# Altium integrated library SignalCommunications.IntLib: 804 symbols (part 8 of 10)
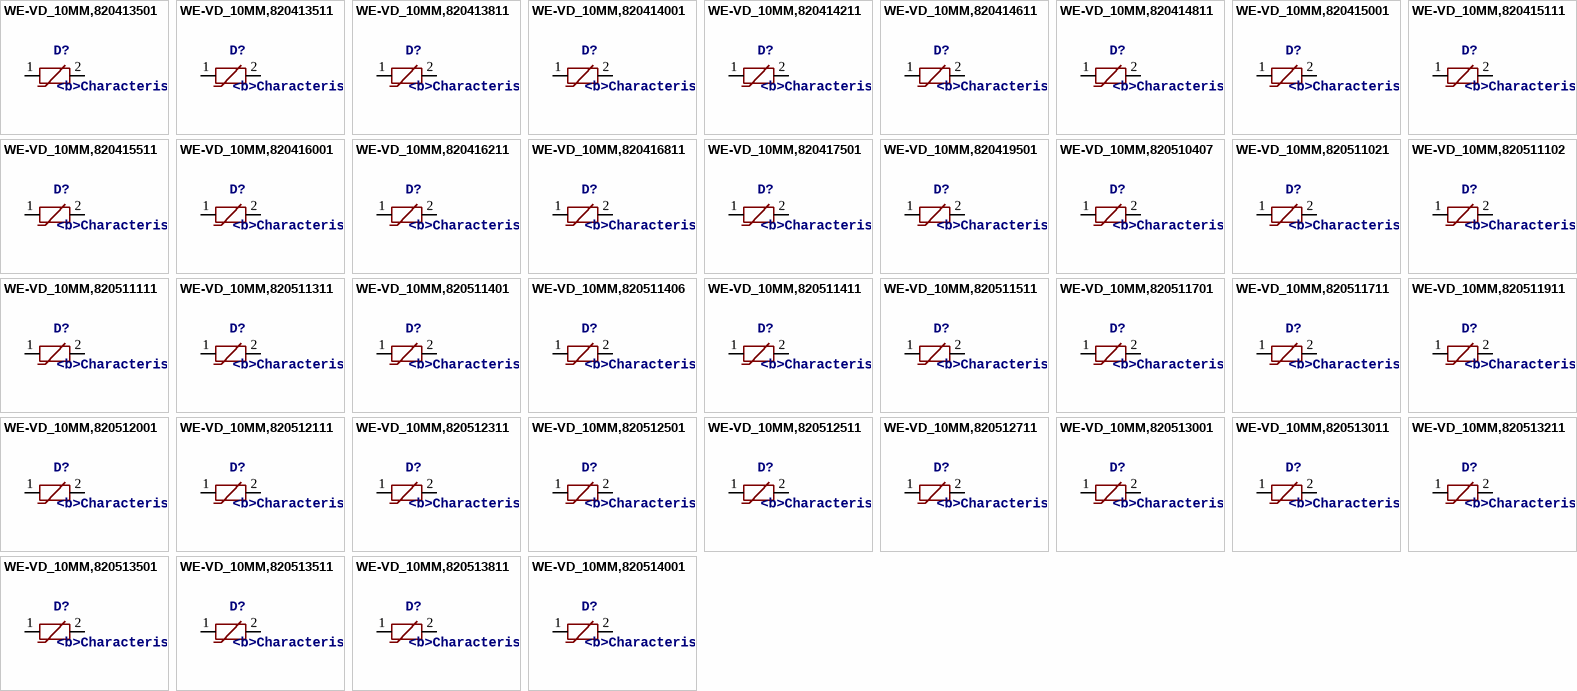
[diagram p49: symbols WE-VD_10MM,820413501 to WE-VD_10MM,820514001]

## WE-VD_10MM,820511411
designator D?, comment <b>Characteristics:</b> / <pre>•Low clamping voltage / •After a surge impulse the varistor works immediately / in normal mode so there is no slip current / •Excellent absorption at surge impulses</pre><br> / <b>Applications:</b> / <pre> / •12–48 VDC distribution / •110–400 V power supply / •Leakage of voltage peaks / •Surge protection in accordance with EN 61000-4-5 / </pre>
MANUFACTURER: Würth Elektronik eiSos GmbH; CREATED-BY: Christin Zierenner; COMPANY-URL: http://www.we-online.de; CREATED-DATE: May 2012; DATASHEET-URL: http://katalog.we-online.de/kataloge/eisos/index.php?language=en&pf=WE-VD
footprint WE-VD_10MM-DIA
pins: 1, 2

## WE-VD_10MM,820511511
designator D?, comment <b>Characteristics:</b> / <pre>•Low clamping voltage / •After a surge impulse the varistor works immediately / in normal mode so there is no slip current / •Excellent absorption at surge impulses</pre><br> / <b>Applications:</b> / <pre> / •12–48 VDC distribution / •110–400 V power supply / •Leakage of voltage peaks / •Surge protection in accordance with EN 61000-4-5 / </pre>
MANUFACTURER: Würth Elektronik eiSos GmbH; CREATED-BY: Christin Zierenner; COMPANY-URL: http://www.we-online.de; CREATED-DATE: May 2012; DATASHEET-URL: http://katalog.we-online.de/kataloge/eisos/index.php?language=en&pf=WE-VD
footprint WE-VD_10MM-DIA
pins: 1, 2

## WE-VD_10MM,820511701
designator D?, comment <b>Characteristics:</b> / <pre>•Low clamping voltage / •After a surge impulse the varistor works immediately / in normal mode so there is no slip current / •Excellent absorption at surge impulses</pre><br> / <b>Applications:</b> / <pre> / •12–48 VDC distribution / •110–400 V power supply / •Leakage of voltage peaks / •Surge protection in accordance with EN 61000-4-5 / </pre>
MANUFACTURER: Würth Elektronik eiSos GmbH; CREATED-BY: Christin Zierenner; COMPANY-URL: http://www.we-online.de; CREATED-DATE: May 2012; DATASHEET-URL: http://katalog.we-online.de/kataloge/eisos/index.php?language=en&pf=WE-VD
footprint WE-VD_10MM-DIA
pins: 1, 2

## WE-VD_10MM,820511711
designator D?, comment <b>Characteristics:</b> / <pre>•Low clamping voltage / •After a surge impulse the varistor works immediately / in normal mode so there is no slip current / •Excellent absorption at surge impulses</pre><br> / <b>Applications:</b> / <pre> / •12–48 VDC distribution / •110–400 V power supply / •Leakage of voltage peaks / •Surge protection in accordance with EN 61000-4-5 / </pre>
MANUFACTURER: Würth Elektronik eiSos GmbH; CREATED-BY: Christin Zierenner; COMPANY-URL: http://www.we-online.de; CREATED-DATE: May 2012; DATASHEET-URL: http://katalog.we-online.de/kataloge/eisos/index.php?language=en&pf=WE-VD
footprint WE-VD_10MM-DIA
pins: 1, 2

## WE-VD_10MM,820511911
designator D?, comment <b>Characteristics:</b> / <pre>•Low clamping voltage / •After a surge impulse the varistor works immediately / in normal mode so there is no slip current / •Excellent absorption at surge impulses</pre><br> / <b>Applications:</b> / <pre> / •12–48 VDC distribution / •110–400 V power supply / •Leakage of voltage peaks / •Surge protection in accordance with EN 61000-4-5 / </pre>
MANUFACTURER: Würth Elektronik eiSos GmbH; CREATED-BY: Christin Zierenner; COMPANY-URL: http://www.we-online.de; CREATED-DATE: May 2012; DATASHEET-URL: http://katalog.we-online.de/kataloge/eisos/index.php?language=en&pf=WE-VD
footprint WE-VD_10MM-DIA
pins: 1, 2

## WE-VD_10MM,820512001
designator D?, comment <b>Characteristics:</b> / <pre>•Low clamping voltage / •After a surge impulse the varistor works immediately / in normal mode so there is no slip current / •Excellent absorption at surge impulses</pre><br> / <b>Applications:</b> / <pre> / •12–48 VDC distribution / •110–400 V power supply / •Leakage of voltage peaks / •Surge protection in accordance with EN 61000-4-5 / </pre>
MANUFACTURER: Würth Elektronik eiSos GmbH; CREATED-BY: Christin Zierenner; COMPANY-URL: http://www.we-online.de; CREATED-DATE: May 2012; DATASHEET-URL: http://katalog.we-online.de/kataloge/eisos/media/pdf/820512001.pdf
footprint WE-VD_10MM-DIA
pins: 1, 2

## WE-VD_10MM,820512111
designator D?, comment <b>Characteristics:</b> / <pre>•Low clamping voltage / •After a surge impulse the varistor works immediately / in normal mode so there is no slip current / •Excellent absorption at surge impulses</pre><br> / <b>Applications:</b> / <pre> / •12–48 VDC distribution / •110–400 V power supply / •Leakage of voltage peaks / •Surge protection in accordance with EN 61000-4-5 / </pre>
MANUFACTURER: Würth Elektronik eiSos GmbH; CREATED-BY: Christin Zierenner; COMPANY-URL: http://www.we-online.de; CREATED-DATE: May 2012; DATASHEET-URL: http://katalog.we-online.de/kataloge/eisos/index.php?language=en&pf=WE-VD
footprint WE-VD_10MM-DIA
pins: 1, 2

## WE-VD_10MM,820512311
designator D?, comment <b>Characteristics:</b> / <pre>•Low clamping voltage / •After a surge impulse the varistor works immediately / in normal mode so there is no slip current / •Excellent absorption at surge impulses</pre><br> / <b>Applications:</b> / <pre> / •12–48 VDC distribution / •110–400 V power supply / •Leakage of voltage peaks / •Surge protection in accordance with EN 61000-4-5 / </pre>
MANUFACTURER: Würth Elektronik eiSos GmbH; CREATED-BY: Christin Zierenner; COMPANY-URL: http://www.we-online.de; CREATED-DATE: May 2012; DATASHEET-URL: http://katalog.we-online.de/kataloge/eisos/media/pdf/820512311.pdf
footprint WE-VD_10MM-0.9
pins: 1, 2

## WE-VD_10MM,820512501
designator D?, comment <b>Characteristics:</b> / <pre>•Low clamping voltage / •After a surge impulse the varistor works immediately / in normal mode so there is no slip current / •Excellent absorption at surge impulses</pre><br> / <b>Applications:</b> / <pre> / •12–48 VDC distribution / •110–400 V power supply / •Leakage of voltage peaks / •Surge protection in accordance with EN 61000-4-5 / </pre>
MANUFACTURER: Würth Elektronik eiSos GmbH; CREATED-BY: Christin Zierenner; COMPANY-URL: http://www.we-online.de; CREATED-DATE: May 2012; DATASHEET-URL: http://katalog.we-online.de/kataloge/eisos/media/pdf/820512501.pdf
footprint WE-VD_10MM-DIA
pins: 1, 2

## WE-VD_10MM,820512511
designator D?, comment <b>Characteristics:</b> / <pre>•Low clamping voltage / •After a surge impulse the varistor works immediately / in normal mode so there is no slip current / •Excellent absorption at surge impulses</pre><br> / <b>Applications:</b> / <pre> / •12–48 VDC distribution / •110–400 V power supply / •Leakage of voltage peaks / •Surge protection in accordance with EN 61000-4-5 / </pre>
MANUFACTURER: Würth Elektronik eiSos GmbH; CREATED-BY: Christin Zierenner; COMPANY-URL: http://www.we-online.de; CREATED-DATE: May 2012; DATASHEET-URL: http://katalog.we-online.de/kataloge/eisos/media/pdf/820512511.pdf
footprint WE-VD_10MM-1.1
pins: 1, 2

## WE-VD_10MM,820512711
designator D?, comment <b>Characteristics:</b> / <pre>•Low clamping voltage / •After a surge impulse the varistor works immediately / in normal mode so there is no slip current / •Excellent absorption at surge impulses</pre><br> / <b>Applications:</b> / <pre> / •12–48 VDC distribution / •110–400 V power supply / •Leakage of voltage peaks / •Surge protection in accordance with EN 61000-4-5 / </pre>
MANUFACTURER: Würth Elektronik eiSos GmbH; CREATED-BY: Christin Zierenner; COMPANY-URL: http://www.we-online.de; CREATED-DATE: May 2012; DATASHEET-URL: http://katalog.we-online.de/kataloge/eisos/media/pdf/820512711.pdf
footprint WE-VD_10MM-1.3
pins: 1, 2

## WE-VD_10MM,820513001
designator D?, comment <b>Characteristics:</b> / <pre>•Low clamping voltage / •After a surge impulse the varistor works immediately / in normal mode so there is no slip current / •Excellent absorption at surge impulses</pre><br> / <b>Applications:</b> / <pre> / •12–48 VDC distribution / •110–400 V power supply / •Leakage of voltage peaks / •Surge protection in accordance with EN 61000-4-5 / </pre>
MANUFACTURER: Würth Elektronik eiSos GmbH; CREATED-BY: Christin Zierenner; COMPANY-URL: http://www.we-online.de; CREATED-DATE: May 2012; DATASHEET-URL: http://katalog.we-online.de/kataloge/eisos/media/pdf/820513001.pdf
footprint WE-VD_10MM-DIA
pins: 1, 2

## WE-VD_10MM,820513011
designator D?, comment <b>Characteristics:</b> / <pre>•Low clamping voltage / •After a surge impulse the varistor works immediately / in normal mode so there is no slip current / •Excellent absorption at surge impulses</pre><br> / <b>Applications:</b> / <pre> / •12–48 VDC distribution / •110–400 V power supply / •Leakage of voltage peaks / •Surge protection in accordance with EN 61000-4-5 / </pre>
MANUFACTURER: Würth Elektronik eiSos GmbH; CREATED-BY: Christin Zierenner; COMPANY-URL: http://www.we-online.de; CREATED-DATE: May 2012; DATASHEET-URL: http://katalog.we-online.de/kataloge/eisos/media/pdf/820513011.pdf
footprint WE-VD_10MM-1.5
pins: 1, 2

## WE-VD_10MM,820513211
designator D?, comment <b>Characteristics:</b> / <pre>•Low clamping voltage / •After a surge impulse the varistor works immediately / in normal mode so there is no slip current / •Excellent absorption at surge impulses</pre><br> / <b>Applications:</b> / <pre> / •12–48 VDC distribution / •110–400 V power supply / •Leakage of voltage peaks / •Surge protection in accordance with EN 61000-4-5 / </pre>
MANUFACTURER: Würth Elektronik eiSos GmbH; CREATED-BY: Christin Zierenner; COMPANY-URL: http://www.we-online.de; CREATED-DATE: May 2012; DATASHEET-URL: http://katalog.we-online.de/kataloge/eisos/index.php?language=en&pf=WE-VD
footprint WE-VD_10MM-1.6
pins: 1, 2

## WE-VD_10MM,820513501
designator D?, comment <b>Characteristics:</b> / <pre>•Low clamping voltage / •After a surge impulse the varistor works immediately / in normal mode so there is no slip current / •Excellent absorption at surge impulses</pre><br> / <b>Applications:</b> / <pre> / •12–48 VDC distribution / •110–400 V power supply / •Leakage of voltage peaks / •Surge protection in accordance with EN 61000-4-5 / </pre>
MANUFACTURER: Würth Elektronik eiSos GmbH; CREATED-BY: Christin Zierenner; COMPANY-URL: http://www.we-online.de; CREATED-DATE: May 2012; DATASHEET-URL: http://katalog.we-online.de/kataloge/eisos/index.php?language=en&pf=WE-VD
footprint WE-VD_10MM-0.9
pins: 1, 2

## WE-VD_10MM,820513511
designator D?, comment <b>Characteristics:</b> / <pre>•Low clamping voltage / •After a surge impulse the varistor works immediately / in normal mode so there is no slip current / •Excellent absorption at surge impulses</pre><br> / <b>Applications:</b> / <pre> / •12–48 VDC distribution / •110–400 V power supply / •Leakage of voltage peaks / •Surge protection in accordance with EN 61000-4-5 / </pre>
MANUFACTURER: Würth Elektronik eiSos GmbH; CREATED-BY: Christin Zierenner; COMPANY-URL: http://www.we-online.de; CREATED-DATE: May 2012; DATASHEET-URL: http://katalog.we-online.de/kataloge/eisos/index.php?language=en&pf=WE-VD
footprint WE-VD_10MM-1.9
pins: 1, 2

## WE-VD_10MM,820513811
designator D?, comment <b>Characteristics:</b> / <pre>•Low clamping voltage / •After a surge impulse the varistor works immediately / in normal mode so there is no slip current / •Excellent absorption at surge impulses</pre><br> / <b>Applications:</b> / <pre> / •12–48 VDC distribution / •110–400 V power supply / •Leakage of voltage peaks / •Surge protection in accordance with EN 61000-4-5 / </pre>
MANUFACTURER: Würth Elektronik eiSos GmbH; CREATED-BY: Christin Zierenner; COMPANY-URL: http://www.we-online.de; CREATED-DATE: May 2012; DATASHEET-URL: http://katalog.we-online.de/kataloge/eisos/index.php?language=en&pf=WE-VD
footprint WE-VD_10MM-2.2
pins: 1, 2

## WE-VD_10MM,820514001
designator D?, comment <b>Characteristics:</b> / <pre>•Low clamping voltage / •After a surge impulse the varistor works immediately / in normal mode so there is no slip current / •Excellent absorption at surge impulses</pre><br> / <b>Applications:</b> / <pre> / •12–48 VDC distribution / •110–400 V power supply / •Leakage of voltage peaks / •Surge protection in accordance with EN 61000-4-5 / </pre>
MANUFACTURER: Würth Elektronik eiSos GmbH; CREATED-BY: Christin Zierenner; COMPANY-URL: http://www.we-online.de; CREATED-DATE: May 2012; DATASHEET-URL: http://katalog.we-online.de/kataloge/eisos/index.php?language=en&pf=WE-VD
footprint WE-VD_10MM-1.3
pins: 1, 2

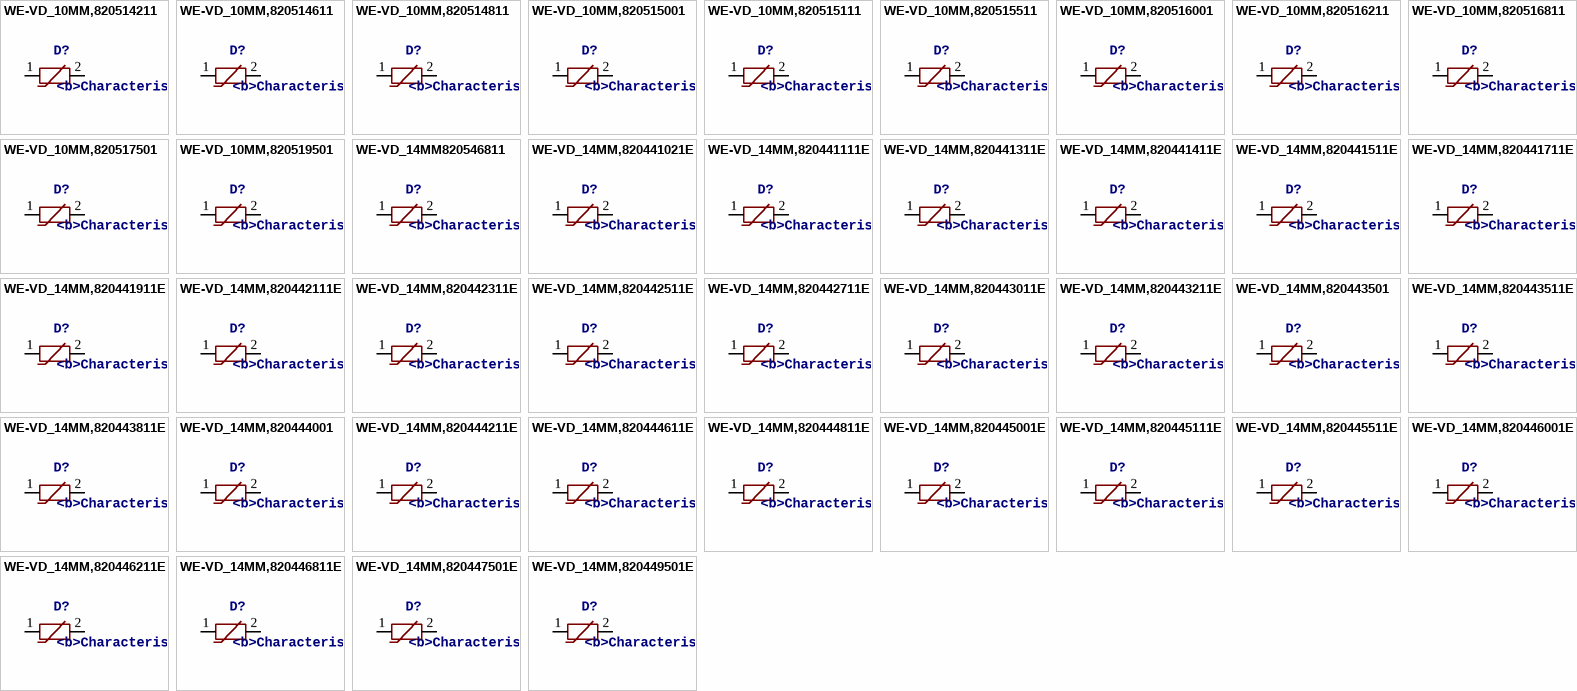
[diagram p38: symbols WE-VD_10MM,820514211 to WE-VD_14MM,820449501E]

## WE-VD_10MM,820514211
designator D?, comment <b>Characteristics:</b> / <pre>•Low clamping voltage / •After a surge impulse the varistor works immediately / in normal mode so there is no slip current / •Excellent absorption at surge impulses</pre><br> / <b>Applications:</b> / <pre> / •12–48 VDC distribution / •110–400 V power supply / •Leakage of voltage peaks / •Surge protection in accordance with EN 61000-4-5 / </pre>
MANUFACTURER: Würth Elektronik eiSos GmbH; CREATED-BY: Christin Zierenner; COMPANY-URL: http://www.we-online.de; CREATED-DATE: May 2012; DATASHEET-URL: http://katalog.we-online.de/kataloge/eisos/index.php?language=en&pf=WE-VD
footprint WE-VD_10MM-2.5
pins: 1, 2

## WE-VD_10MM,820514611
designator D?, comment <b>Characteristics:</b> / <pre>•Low clamping voltage / •After a surge impulse the varistor works immediately / in normal mode so there is no slip current / •Excellent absorption at surge impulses</pre><br> / <b>Applications:</b> / <pre> / •12–48 VDC distribution / •110–400 V power supply / •Leakage of voltage peaks / •Surge protection in accordance with EN 61000-4-5 / </pre>
MANUFACTURER: Würth Elektronik eiSos GmbH; CREATED-BY: Christin Zierenner; COMPANY-URL: http://www.we-online.de; CREATED-DATE: May 2012; DATASHEET-URL: http://katalog.we-online.de/kataloge/eisos/media/pdf/820514611.pdf
footprint WE-VD_10MM-2.8
pins: 1, 2

## WE-VD_10MM,820514811
designator D?, comment <b>Characteristics:</b> / <pre>•Low clamping voltage / •After a surge impulse the varistor works immediately / in normal mode so there is no slip current / •Excellent absorption at surge impulses</pre><br> / <b>Applications:</b> / <pre> / •12–48 VDC distribution / •110–400 V power supply / •Leakage of voltage peaks / •Surge protection in accordance with EN 61000-4-5 / </pre>
MANUFACTURER: Würth Elektronik eiSos GmbH; CREATED-BY: Christin Zierenner; COMPANY-URL: http://www.we-online.de; CREATED-DATE: May 2012; DATASHEET-URL: http://katalog.we-online.de/kataloge/eisos/index.php?language=en&pf=WE-VD
footprint WE-VD_10MM-2.9
pins: 1, 2

## WE-VD_10MM,820515001
designator D?, comment <b>Characteristics:</b> / <pre>•Low clamping voltage / •After a surge impulse the varistor works immediately / in normal mode so there is no slip current / •Excellent absorption at surge impulses</pre><br> / <b>Applications:</b> / <pre> / •12–48 VDC distribution / •110–400 V power supply / •Leakage of voltage peaks / •Surge protection in accordance with EN 61000-4-5 / </pre>
MANUFACTURER: Würth Elektronik eiSos GmbH; CREATED-BY: Christin Zierenner; COMPANY-URL: http://www.we-online.de; CREATED-DATE: May 2012; DATASHEET-URL: http://katalog.we-online.de/kataloge/eisos/index.php?language=en&pf=WE-VD
footprint WE-VD_10MM-DIA
pins: 1, 2

## WE-VD_10MM,820515111
designator D?, comment <b>Characteristics:</b> / <pre>•Low clamping voltage / •After a surge impulse the varistor works immediately / in normal mode so there is no slip current / •Excellent absorption at surge impulses</pre><br> / <b>Applications:</b> / <pre> / •12–48 VDC distribution / •110–400 V power supply / •Leakage of voltage peaks / •Surge protection in accordance with EN 61000-4-5 / </pre>
MANUFACTURER: Würth Elektronik eiSos GmbH; CREATED-BY: Christin Zierenner; COMPANY-URL: http://www.we-online.de; CREATED-DATE: May 2012; DATASHEET-URL: http://katalog.we-online.de/kataloge/eisos/index.php?language=en&pf=WE-VD
footprint WE-VD_10MM-3.1
pins: 1, 2

## WE-VD_10MM,820515511
designator D?, comment <b>Characteristics:</b> / <pre>•Low clamping voltage / •After a surge impulse the varistor works immediately / in normal mode so there is no slip current / •Excellent absorption at surge impulses</pre><br> / <b>Applications:</b> / <pre> / •12–48 VDC distribution / •110–400 V power supply / •Leakage of voltage peaks / •Surge protection in accordance with EN 61000-4-5 / </pre>
MANUFACTURER: Würth Elektronik eiSos GmbH; CREATED-BY: Christin Zierenner; COMPANY-URL: http://www.we-online.de; CREATED-DATE: May 2012; DATASHEET-URL: http://katalog.we-online.de/kataloge/eisos/index.php?language=en&pf=WE-VD
footprint WE-VD_10MM-3.6
pins: 1, 2

## WE-VD_10MM,820516001
designator D?, comment <b>Characteristics:</b> / <pre>•Low clamping voltage / •After a surge impulse the varistor works immediately / in normal mode so there is no slip current / •Excellent absorption at surge impulses</pre><br> / <b>Applications:</b> / <pre> / •12–48 VDC distribution / •110–400 V power supply / •Leakage of voltage peaks / •Surge protection in accordance with EN 61000-4-5 / </pre>
MANUFACTURER: Würth Elektronik eiSos GmbH; CREATED-BY: Christin Zierenner; COMPANY-URL: http://www.we-online.de; CREATED-DATE: May 2012; DATASHEET-URL: http://katalog.we-online.de/kataloge/eisos/index.php?language=en&pf=WE-VD
footprint WE-VD_10MM-DIA
pins: 1, 2

## WE-VD_10MM,820516211
designator D?, comment <b>Characteristics:</b> / <pre>•Low clamping voltage / •After a surge impulse the varistor works immediately / in normal mode so there is no slip current / •Excellent absorption at surge impulses</pre><br> / <b>Applications:</b> / <pre> / •12–48 VDC distribution / •110–400 V power supply / •Leakage of voltage peaks / •Surge protection in accordance with EN 61000-4-5 / </pre>
MANUFACTURER: Würth Elektronik eiSos GmbH; CREATED-BY: Christin Zierenner; COMPANY-URL: http://www.we-online.de; CREATED-DATE: May 2012; DATASHEET-URL: http://katalog.we-online.de/kataloge/eisos/index.php?language=en&pf=WE-VD
footprint WE-VD_10MM-4.0
pins: 1, 2

## WE-VD_10MM,820516811
designator D?, comment <b>Characteristics:</b> / <pre>•Low clamping voltage / •After a surge impulse the varistor works immediately / in normal mode so there is no slip current / •Excellent absorption at surge impulses</pre><br> / <b>Applications:</b> / <pre> / •12–48 VDC distribution / •110–400 V power supply / •Leakage of voltage peaks / •Surge protection in accordance with EN 61000-4-5 / </pre>
MANUFACTURER: Würth Elektronik eiSos GmbH; CREATED-BY: Christin Zierenner; COMPANY-URL: http://www.we-online.de; CREATED-DATE: May 2012; DATASHEET-URL: http://katalog.we-online.de/kataloge/eisos/index.php?language=en&pf=WE-VD
footprint WE-VD_10MM-4.5
pins: 1, 2

## WE-VD_10MM,820517501
designator D?, comment <b>Characteristics:</b> / <pre>•Low clamping voltage / •After a surge impulse the varistor works immediately / in normal mode so there is no slip current / •Excellent absorption at surge impulses</pre><br> / <b>Applications:</b> / <pre> / •12–48 VDC distribution / •110–400 V power supply / •Leakage of voltage peaks / •Surge protection in accordance with EN 61000-4-5 / </pre>
MANUFACTURER: Würth Elektronik eiSos GmbH; CREATED-BY: Christin Zierenner; COMPANY-URL: http://www.we-online.de; CREATED-DATE: May 2012; DATASHEET-URL: http://katalog.we-online.de/kataloge/eisos/index.php?language=en&pf=WE-VD
footprint WE-VD_10MM-DIA
pins: 1, 2

## WE-VD_10MM,820519501
designator D?, comment <b>Characteristics:</b> / <pre>•Low clamping voltage / •After a surge impulse the varistor works immediately / in normal mode so there is no slip current / •Excellent absorption at surge impulses</pre><br> / <b>Applications:</b> / <pre> / •12–48 VDC distribution / •110–400 V power supply / •Leakage of voltage peaks / •Surge protection in accordance with EN 61000-4-5 / </pre>
MANUFACTURER: Würth Elektronik eiSos GmbH; CREATED-BY: Christin Zierenner; COMPANY-URL: http://www.we-online.de; CREATED-DATE: May 2012; DATASHEET-URL: http://katalog.we-online.de/kataloge/eisos/index.php?language=en&pf=WE-VD
footprint WE-VD_10MM-DIA
pins: 1, 2

## WE-VD_14MM820546811
designator D?, comment <b>Characteristics:</b> / <pre>•Low clamping voltage / •After a surge impulse the varistor works immediately / in normal mode so there is no slip current / •Excellent absorption at surge impulses</pre><br> / <b>Applications:</b> / <pre> / •12–48 VDC distribution / •110–400 V power supply / •Leakage of voltage peaks / •Surge protection in accordance with EN 61000-4-5 / </pre>
MANUFACTURER: Würth Elektronik eiSos GmbH; CREATED-BY: Christin Zierenner; COMPANY-URL: http://www.we-online.de; CREATED-DATE: May 2012; DATASHEET-URL: http://katalog.we-online.de/kataloge/eisos/media/pdf/820546811.pdf
footprint WE-VD_14MM-4.5
pins: 1, 2

## WE-VD_14MM,820441021E
designator D?, comment <b>Characteristics:</b> / <pre>•Low clamping voltage / •After a surge impulse the varistor works immediately / in normal mode so there is no slip current / •Excellent absorption at surge impulses</pre><br> / <b>Applications:</b> / <pre> / •12–48 VDC distribution / •110–400 V power supply / •Leakage of voltage peaks / •Surge protection in accordance with EN 61000-4-5 / </pre>
MANUFACTURER: Würth Elektronik eiSos GmbH; CREATED-BY: Christin Zierenner; COMPANY-URL: http://www.we-online.de; CREATED-DATE: May 2012; DATASHEET-URL: http://katalog.we-online.de/kataloge/eisos/index.php?language=en&pf=WE-VD
footprint WE-VD_14MM-10.2
pins: 1, 2

## WE-VD_14MM,820441111E
designator D?, comment <b>Characteristics:</b> / <pre>•Low clamping voltage / •After a surge impulse the varistor works immediately / in normal mode so there is no slip current / •Excellent absorption at surge impulses</pre><br> / <b>Applications:</b> / <pre> / •12–48 VDC distribution / •110–400 V power supply / •Leakage of voltage peaks / •Surge protection in accordance with EN 61000-4-5 / </pre>
MANUFACTURER: Würth Elektronik eiSos GmbH; CREATED-BY: Christin Zierenner; COMPANY-URL: http://www.we-online.de; CREATED-DATE: May 2012; DATASHEET-URL: http://katalog.we-online.de/kataloge/eisos/index.php?language=en&pf=WE-VD
footprint WE-VD_14MM-DIA
pins: 1, 2

## WE-VD_14MM,820441311E
designator D?, comment <b>Characteristics:</b> / <pre>•Low clamping voltage / •After a surge impulse the varistor works immediately / in normal mode so there is no slip current / •Excellent absorption at surge impulses</pre><br> / <b>Applications:</b> / <pre> / •12–48 VDC distribution / •110–400 V power supply / •Leakage of voltage peaks / •Surge protection in accordance with EN 61000-4-5 / </pre>
MANUFACTURER: Würth Elektronik eiSos GmbH; CREATED-BY: Christin Zierenner; COMPANY-URL: http://www.we-online.de; CREATED-DATE: May 2012; DATASHEET-URL: http://katalog.we-online.de/kataloge/eisos/media/pdf/820441311E.pdf
footprint WE-VD_14MM-DIA
pins: 1, 2

## WE-VD_14MM,820441411E
designator D?, comment <b>Characteristics:</b> / <pre>•Low clamping voltage / •After a surge impulse the varistor works immediately / in normal mode so there is no slip current / •Excellent absorption at surge impulses</pre><br> / <b>Applications:</b> / <pre> / •12–48 VDC distribution / •110–400 V power supply / •Leakage of voltage peaks / •Surge protection in accordance with EN 61000-4-5 / </pre>
MANUFACTURER: Würth Elektronik eiSos GmbH; CREATED-BY: Christin Zierenner; COMPANY-URL: http://www.we-online.de; CREATED-DATE: May 2012; DATASHEET-URL: http://katalog.we-online.de/kataloge/eisos/index.php?language=en&pf=WE-VD
footprint WE-VD_14MM-DIA
pins: 1, 2

## WE-VD_14MM,820441511E
designator D?, comment <b>Characteristics:</b> / <pre>•Low clamping voltage / •After a surge impulse the varistor works immediately / in normal mode so there is no slip current / •Excellent absorption at surge impulses</pre><br> / <b>Applications:</b> / <pre> / •12–48 VDC distribution / •110–400 V power supply / •Leakage of voltage peaks / •Surge protection in accordance with EN 61000-4-5 / </pre>
MANUFACTURER: Würth Elektronik eiSos GmbH; CREATED-BY: Christin Zierenner; COMPANY-URL: http://www.we-online.de; CREATED-DATE: May 2012; DATASHEET-URL: http://katalog.we-online.de/kataloge/eisos/index.php?language=en&pf=WE-VD
footprint WE-VD_14MM-DIA
pins: 1, 2

## WE-VD_14MM,820441711E
designator D?, comment <b>Characteristics:</b> / <pre>•Low clamping voltage / •After a surge impulse the varistor works immediately / in normal mode so there is no slip current / •Excellent absorption at surge impulses</pre><br> / <b>Applications:</b> / <pre> / •12–48 VDC distribution / •110–400 V power supply / •Leakage of voltage peaks / •Surge protection in accordance with EN 61000-4-5 / </pre>
MANUFACTURER: Würth Elektronik eiSos GmbH; CREATED-BY: Christin Zierenner; COMPANY-URL: http://www.we-online.de; CREATED-DATE: May 2012; DATASHEET-URL: http://katalog.we-online.de/kataloge/eisos/index.php?language=en&pf=WE-VD
footprint WE-VD_14MM-DIA
pins: 1, 2

## WE-VD_14MM,820441911E
designator D?, comment <b>Characteristics:</b> / <pre>•Low clamping voltage / •After a surge impulse the varistor works immediately / in normal mode so there is no slip current / •Excellent absorption at surge impulses</pre><br> / <b>Applications:</b> / <pre> / •12–48 VDC distribution / •110–400 V power supply / •Leakage of voltage peaks / •Surge protection in accordance with EN 61000-4-5 / </pre>
MANUFACTURER: Würth Elektronik eiSos GmbH; CREATED-BY: Christin Zierenner; COMPANY-URL: http://www.we-online.de; CREATED-DATE: May 2012; DATASHEET-URL: http://katalog.we-online.de/kataloge/eisos/index.php?language=en&pf=WE-VD
footprint WE-VD_14MM-DIA
pins: 1, 2

## WE-VD_14MM,820442111E
designator D?, comment <b>Characteristics:</b> / <pre>•Low clamping voltage / •After a surge impulse the varistor works immediately / in normal mode so there is no slip current / •Excellent absorption at surge impulses</pre><br> / <b>Applications:</b> / <pre> / •12–48 VDC distribution / •110–400 V power supply / •Leakage of voltage peaks / •Surge protection in accordance with EN 61000-4-5 / </pre>
MANUFACTURER: Würth Elektronik eiSos GmbH; CREATED-BY: Christin Zierenner; COMPANY-URL: http://www.we-online.de; CREATED-DATE: May 2012; DATASHEET-URL: http://katalog.we-online.de/kataloge/eisos/index.php?language=en&pf=WE-VD
footprint WE-VD_14MM-DIA
pins: 1, 2

## WE-VD_14MM,820442311E
designator D?, comment <b>Characteristics:</b> / <pre>•Low clamping voltage / •After a surge impulse the varistor works immediately / in normal mode so there is no slip current / •Excellent absorption at surge impulses</pre><br> / <b>Applications:</b> / <pre> / •12–48 VDC distribution / •110–400 V power supply / •Leakage of voltage peaks / •Surge protection in accordance with EN 61000-4-5 / </pre>
MANUFACTURER: Würth Elektronik eiSos GmbH; CREATED-BY: Christin Zierenner; COMPANY-URL: http://www.we-online.de; CREATED-DATE: May 2012; DATASHEET-URL: http://katalog.we-online.de/kataloge/eisos/index.php?language=en&pf=WE-VD
footprint WE-VD_14MM-0.9
pins: 1, 2

## WE-VD_14MM,820442511E
designator D?, comment <b>Characteristics:</b> / <pre>•Low clamping voltage / •After a surge impulse the varistor works immediately / in normal mode so there is no slip current / •Excellent absorption at surge impulses</pre><br> / <b>Applications:</b> / <pre> / •12–48 VDC distribution / •110–400 V power supply / •Leakage of voltage peaks / •Surge protection in accordance with EN 61000-4-5 / </pre>
MANUFACTURER: Würth Elektronik eiSos GmbH; CREATED-BY: Christin Zierenner; COMPANY-URL: http://www.we-online.de; CREATED-DATE: May 2012; DATASHEET-URL: http://katalog.we-online.de/kataloge/eisos/index.php?language=en&pf=WE-VD
footprint WE-VD_14MM-1.1
pins: 1, 2

## WE-VD_14MM,820442711E
designator D?, comment <b>Characteristics:</b> / <pre>•Low clamping voltage / •After a surge impulse the varistor works immediately / in normal mode so there is no slip current / •Excellent absorption at surge impulses</pre><br> / <b>Applications:</b> / <pre> / •12–48 VDC distribution / •110–400 V power supply / •Leakage of voltage peaks / •Surge protection in accordance with EN 61000-4-5 / </pre>
MANUFACTURER: Würth Elektronik eiSos GmbH; CREATED-BY: Christin Zierenner; COMPANY-URL: http://www.we-online.de; CREATED-DATE: May 2012; DATASHEET-URL: http://katalog.we-online.de/kataloge/eisos/media/pdf/820442711E.pdf
footprint WE-VD_14MM-1.3
pins: 1, 2

## WE-VD_14MM,820443011E
designator D?, comment <b>Characteristics:</b> / <pre>•Low clamping voltage / •After a surge impulse the varistor works immediately / in normal mode so there is no slip current / •Excellent absorption at surge impulses</pre><br> / <b>Applications:</b> / <pre> / •12–48 VDC distribution / •110–400 V power supply / •Leakage of voltage peaks / •Surge protection in accordance with EN 61000-4-5 / </pre>
MANUFACTURER: Würth Elektronik eiSos GmbH; CREATED-BY: Christin Zierenner; COMPANY-URL: http://www.we-online.de; CREATED-DATE: May 2012; DATASHEET-URL: http://katalog.we-online.de/kataloge/eisos/index.php?language=en&pf=WE-VD
footprint WE-VD_14MM-1.5
pins: 1, 2

## WE-VD_14MM,820443211E
designator D?, comment <b>Characteristics:</b> / <pre>•Low clamping voltage / •After a surge impulse the varistor works immediately / in normal mode so there is no slip current / •Excellent absorption at surge impulses</pre><br> / <b>Applications:</b> / <pre> / •12–48 VDC distribution / •110–400 V power supply / •Leakage of voltage peaks / •Surge protection in accordance with EN 61000-4-5 / </pre>
MANUFACTURER: Würth Elektronik eiSos GmbH; CREATED-BY: Christin Zierenner; COMPANY-URL: http://www.we-online.de; CREATED-DATE: May 2012; DATASHEET-URL: http://katalog.we-online.de/kataloge/eisos/media/pdf/820443211E.pdf
footprint WE-VD_14MM-1.6
pins: 1, 2

## WE-VD_14MM,820443501
designator D?, comment <b>Characteristics:</b> / <pre>•Low clamping voltage / •After a surge impulse the varistor works immediately / in normal mode so there is no slip current / •Excellent absorption at surge impulses</pre><br> / <b>Applications:</b> / <pre> / •12–48 VDC distribution / •110–400 V power supply / •Leakage of voltage peaks / •Surge protection in accordance with EN 61000-4-5 / </pre>
MANUFACTURER: Würth Elektronik eiSos GmbH; CREATED-BY: Christin Zierenner; COMPANY-URL: http://www.we-online.de; CREATED-DATE: May 2012; DATASHEET-URL: http://katalog.we-online.de/kataloge/eisos/index.php?language=en&pf=WE-VD
footprint WE-VD_14MM-0.9
pins: 1, 2

## WE-VD_14MM,820443511E
designator D?, comment <b>Characteristics:</b> / <pre>•Low clamping voltage / •After a surge impulse the varistor works immediately / in normal mode so there is no slip current / •Excellent absorption at surge impulses</pre><br> / <b>Applications:</b> / <pre> / •12–48 VDC distribution / •110–400 V power supply / •Leakage of voltage peaks / •Surge protection in accordance with EN 61000-4-5 / </pre>
MANUFACTURER: Würth Elektronik eiSos GmbH; CREATED-BY: Christin Zierenner; COMPANY-URL: http://www.we-online.de; CREATED-DATE: May 2012; DATASHEET-URL: http://katalog.we-online.de/kataloge/eisos/index.php?language=en&pf=WE-VD
footprint WE-VD_14MM-1.9
pins: 1, 2

## WE-VD_14MM,820443811E
designator D?, comment <b>Characteristics:</b> / <pre>•Low clamping voltage / •After a surge impulse the varistor works immediately / in normal mode so there is no slip current / •Excellent absorption at surge impulses</pre><br> / <b>Applications:</b> / <pre> / •12–48 VDC distribution / •110–400 V power supply / •Leakage of voltage peaks / •Surge protection in accordance with EN 61000-4-5 / </pre>
MANUFACTURER: Würth Elektronik eiSos GmbH; CREATED-BY: Christin Zierenner; COMPANY-URL: http://www.we-online.de; CREATED-DATE: May 2012; DATASHEET-URL: http://katalog.we-online.de/kataloge/eisos/index.php?language=en&pf=WE-VD
footprint WE-VD_14MM-2.2
pins: 1, 2

## WE-VD_14MM,820444001
designator D?, comment <b>Characteristics:</b> / <pre>•Low clamping voltage / •After a surge impulse the varistor works immediately / in normal mode so there is no slip current / •Excellent absorption at surge impulses</pre><br> / <b>Applications:</b> / <pre> / •12–48 VDC distribution / •110–400 V power supply / •Leakage of voltage peaks / •Surge protection in accordance with EN 61000-4-5 / </pre>
MANUFACTURER: Würth Elektronik eiSos GmbH; CREATED-BY: Christin Zierenner; COMPANY-URL: http://www.we-online.de; CREATED-DATE: May 2012; DATASHEET-URL: http://katalog.we-online.de/kataloge/eisos/index.php?language=en&pf=WE-VD
footprint WE-VD_14MM-1.3
pins: 1, 2

## WE-VD_14MM,820444211E
designator D?, comment <b>Characteristics:</b> / <pre>•Low clamping voltage / •After a surge impulse the varistor works immediately / in normal mode so there is no slip current / •Excellent absorption at surge impulses</pre><br> / <b>Applications:</b> / <pre> / •12–48 VDC distribution / •110–400 V power supply / •Leakage of voltage peaks / •Surge protection in accordance with EN 61000-4-5 / </pre>
MANUFACTURER: Würth Elektronik eiSos GmbH; CREATED-BY: Christin Zierenner; COMPANY-URL: http://www.we-online.de; CREATED-DATE: May 2012; DATASHEET-URL: http://katalog.we-online.de/kataloge/eisos/media/pdf/820444211E.pdf
footprint WE-VD_14MM-2.5
pins: 1, 2

## WE-VD_14MM,820444611E
designator D?, comment <b>Characteristics:</b> / <pre>•Low clamping voltage / •After a surge impulse the varistor works immediately / in normal mode so there is no slip current / •Excellent absorption at surge impulses</pre><br> / <b>Applications:</b> / <pre> / •12–48 VDC distribution / •110–400 V power supply / •Leakage of voltage peaks / •Surge protection in accordance with EN 61000-4-5 / </pre>
MANUFACTURER: Würth Elektronik eiSos GmbH; CREATED-BY: Christin Zierenner; COMPANY-URL: http://www.we-online.de; CREATED-DATE: May 2012; DATASHEET-URL: http://katalog.we-online.de/kataloge/eisos/media/pdf/820444611E.pdf
footprint WE-VD_14MM-2.8
pins: 1, 2

## WE-VD_14MM,820444811E
designator D?, comment <b>Characteristics:</b> / <pre>•Low clamping voltage / •After a surge impulse the varistor works immediately / in normal mode so there is no slip current / •Excellent absorption at surge impulses</pre><br> / <b>Applications:</b> / <pre> / •12–48 VDC distribution / •110–400 V power supply / •Leakage of voltage peaks / •Surge protection in accordance with EN 61000-4-5 / </pre>
MANUFACTURER: Würth Elektronik eiSos GmbH; CREATED-BY: Christin Zierenner; COMPANY-URL: http://www.we-online.de; CREATED-DATE: May 2012; DATASHEET-URL: http://katalog.we-online.de/kataloge/eisos/index.php?language=en&pf=WE-VD
footprint WE-VD_14MM-2.9
pins: 1, 2

## WE-VD_14MM,820445001E
designator D?, comment <b>Characteristics:</b> / <pre>•Low clamping voltage / •After a surge impulse the varistor works immediately / in normal mode so there is no slip current / •Excellent absorption at surge impulses</pre><br> / <b>Applications:</b> / <pre> / •12–48 VDC distribution / •110–400 V power supply / •Leakage of voltage peaks / •Surge protection in accordance with EN 61000-4-5 / </pre>
MANUFACTURER: Würth Elektronik eiSos GmbH; CREATED-BY: Christin Zierenner; COMPANY-URL: http://www.we-online.de; CREATED-DATE: May 2012; DATASHEET-URL: http://katalog.we-online.de/kataloge/eisos/index.php?language=en&pf=WE-VD
footprint WE-VD_14MM-DIA
pins: 1, 2

## WE-VD_14MM,820445111E
designator D?, comment <b>Characteristics:</b> / <pre>•Low clamping voltage / •After a surge impulse the varistor works immediately / in normal mode so there is no slip current / •Excellent absorption at surge impulses</pre><br> / <b>Applications:</b> / <pre> / •12–48 VDC distribution / •110–400 V power supply / •Leakage of voltage peaks / •Surge protection in accordance with EN 61000-4-5 / </pre>
MANUFACTURER: Würth Elektronik eiSos GmbH; CREATED-BY: Christin Zierenner; COMPANY-URL: http://www.we-online.de; CREATED-DATE: May 2012; DATASHEET-URL: http://katalog.we-online.de/kataloge/eisos/index.php?language=en&pf=WE-VD
footprint WE-VD_14MM-3.1
pins: 1, 2

## WE-VD_14MM,820445511E
designator D?, comment <b>Characteristics:</b> / <pre>•Low clamping voltage / •After a surge impulse the varistor works immediately / in normal mode so there is no slip current / •Excellent absorption at surge impulses</pre><br> / <b>Applications:</b> / <pre> / •12–48 VDC distribution / •110–400 V power supply / •Leakage of voltage peaks / •Surge protection in accordance with EN 61000-4-5 / </pre>
MANUFACTURER: Würth Elektronik eiSos GmbH; CREATED-BY: Christin Zierenner; COMPANY-URL: http://www.we-online.de; CREATED-DATE: May 2012; DATASHEET-URL: http://katalog.we-online.de/kataloge/eisos/media/pdf/820445511E.pdf
footprint WE-VD_14MM-3.6
pins: 1, 2

## WE-VD_14MM,820446001E
designator D?, comment <b>Characteristics:</b> / <pre>•Low clamping voltage / •After a surge impulse the varistor works immediately / in normal mode so there is no slip current / •Excellent absorption at surge impulses</pre><br> / <b>Applications:</b> / <pre> / •12–48 VDC distribution / •110–400 V power supply / •Leakage of voltage peaks / •Surge protection in accordance with EN 61000-4-5 / </pre>
MANUFACTURER: Würth Elektronik eiSos GmbH; CREATED-BY: Christin Zierenner; COMPANY-URL: http://www.we-online.de; CREATED-DATE: May 2012; DATASHEET-URL: http://katalog.we-online.de/kataloge/eisos/index.php?language=en&pf=WE-VD
footprint WE-VD_14MM-DIA
pins: 1, 2

## WE-VD_14MM,820446211E
designator D?, comment <b>Characteristics:</b> / <pre>•Low clamping voltage / •After a surge impulse the varistor works immediately / in normal mode so there is no slip current / •Excellent absorption at surge impulses</pre><br> / <b>Applications:</b> / <pre> / •12–48 VDC distribution / •110–400 V power supply / •Leakage of voltage peaks / •Surge protection in accordance with EN 61000-4-5 / </pre>
MANUFACTURER: Würth Elektronik eiSos GmbH; CREATED-BY: Christin Zierenner; COMPANY-URL: http://www.we-online.de; CREATED-DATE: May 2012; DATASHEET-URL: http://katalog.we-online.de/kataloge/eisos/media/pdf/820446211E.pdf
footprint WE-VD_14MM-4.0
pins: 1, 2

## WE-VD_14MM,820446811E
designator D?, comment <b>Characteristics:</b> / <pre>•Low clamping voltage / •After a surge impulse the varistor works immediately / in normal mode so there is no slip current / •Excellent absorption at surge impulses</pre><br> / <b>Applications:</b> / <pre> / •12–48 VDC distribution / •110–400 V power supply / •Leakage of voltage peaks / •Surge protection in accordance with EN 61000-4-5 / </pre>
MANUFACTURER: Würth Elektronik eiSos GmbH; CREATED-BY: Christin Zierenner; COMPANY-URL: http://www.we-online.de; CREATED-DATE: May 2012; DATASHEET-URL: http://katalog.we-online.de/kataloge/eisos/index.php?language=en&pf=WE-VD
footprint WE-VD_14MM-4.5
pins: 1, 2

## WE-VD_14MM,820447501E
designator D?, comment <b>Characteristics:</b> / <pre>•Low clamping voltage / •After a surge impulse the varistor works immediately / in normal mode so there is no slip current / •Excellent absorption at surge impulses</pre><br> / <b>Applications:</b> / <pre> / •12–48 VDC distribution / •110–400 V power supply / •Leakage of voltage peaks / •Surge protection in accordance with EN 61000-4-5 / </pre>
MANUFACTURER: Würth Elektronik eiSos GmbH; CREATED-BY: Christin Zierenner; COMPANY-URL: http://www.we-online.de; CREATED-DATE: May 2012; DATASHEET-URL: http://katalog.we-online.de/kataloge/eisos/index.php?language=en&pf=WE-VD
footprint WE-VD_14MM-DIA
pins: 1, 2

## WE-VD_14MM,820449501E
designator D?, comment <b>Characteristics:</b> / <pre>•Low clamping voltage / •After a surge impulse the varistor works immediately / in normal mode so there is no slip current / •Excellent absorption at surge impulses</pre><br> / <b>Applications:</b> / <pre> / •12–48 VDC distribution / •110–400 V power supply / •Leakage of voltage peaks / •Surge protection in accordance with EN 61000-4-5 / </pre>
MANUFACTURER: Würth Elektronik eiSos GmbH; CREATED-BY: Christin Zierenner; COMPANY-URL: http://www.we-online.de; CREATED-DATE: May 2012; DATASHEET-URL: http://katalog.we-online.de/kataloge/eisos/index.php?language=en&pf=WE-VD
footprint WE-VD_14MM-DIA
pins: 1, 2

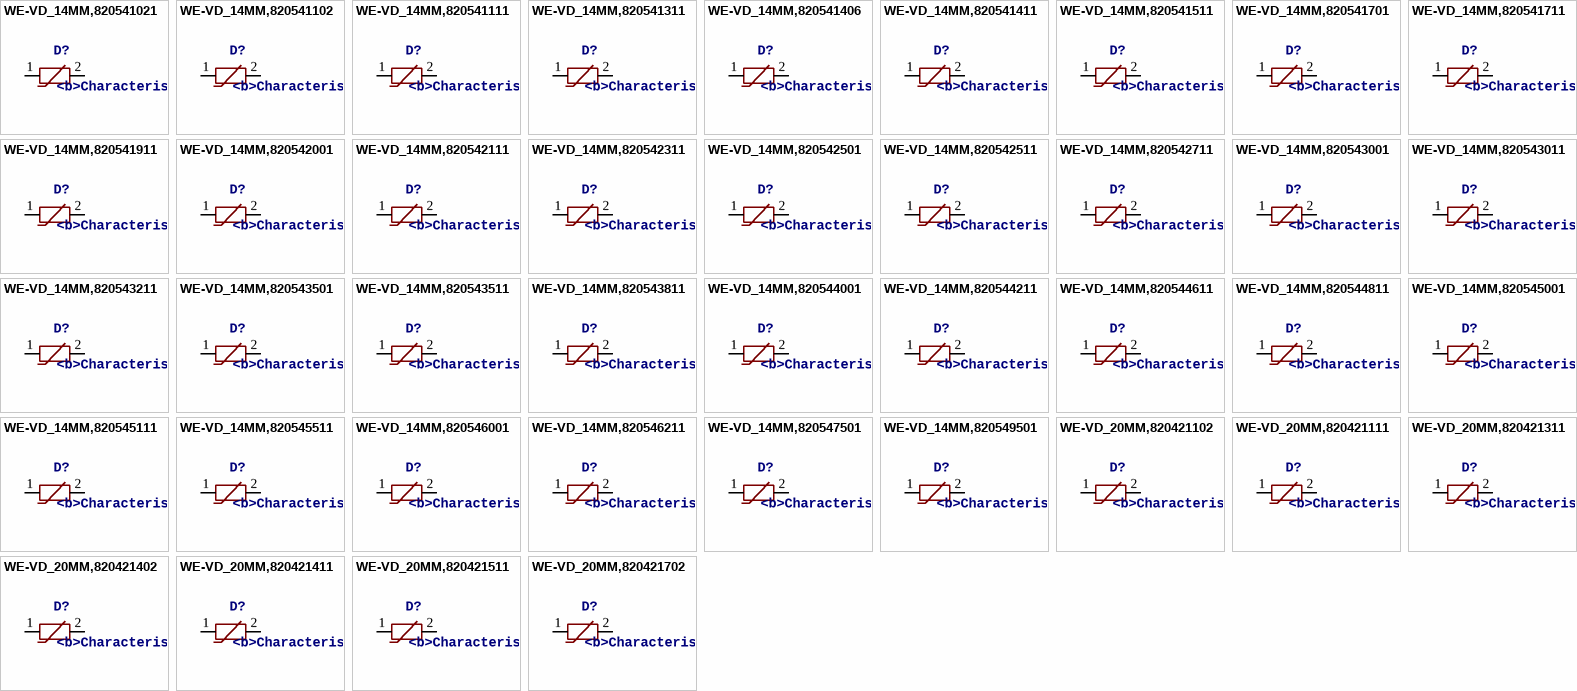
[diagram p39: symbols WE-VD_14MM,820541021 to WE-VD_20MM,820421702]

## WE-VD_14MM,820541021
designator D?, comment <b>Characteristics:</b> / <pre>•Low clamping voltage / •After a surge impulse the varistor works immediately / in normal mode so there is no slip current / •Excellent absorption at surge impulses</pre><br> / <b>Applications:</b> / <pre> / •12–48 VDC distribution / •110–400 V power supply / •Leakage of voltage peaks / •Surge protection in accordance with EN 61000-4-5 / </pre>
MANUFACTURER: Würth Elektronik eiSos GmbH; CREATED-BY: Christin Zierenner; COMPANY-URL: http://www.we-online.de; CREATED-DATE: May 2012; DATASHEET-URL: http://katalog.we-online.de/kataloge/eisos/media/pdf/820541021.pdf
footprint WE-VD_14MM-10.2
pins: 1, 2

## WE-VD_14MM,820541102
designator D?, comment <b>Characteristics:</b> / <pre>•Low clamping voltage / •After a surge impulse the varistor works immediately / in normal mode so there is no slip current / •Excellent absorption at surge impulses</pre><br> / <b>Applications:</b> / <pre> / •12–48 VDC distribution / •110–400 V power supply / •Leakage of voltage peaks / •Surge protection in accordance with EN 61000-4-5 / </pre>
MANUFACTURER: Würth Elektronik eiSos GmbH; CREATED-BY: Christin Zierenner; COMPANY-URL: http://www.we-online.de; CREATED-DATE: May 2012; DATASHEET-URL: http://katalog.we-online.de/kataloge/eisos/index.php?language=en&pf=WE-VD
footprint WE-VD_14MM-DIA
pins: 1, 2

## WE-VD_14MM,820541111
designator D?, comment <b>Characteristics:</b> / <pre>•Low clamping voltage / •After a surge impulse the varistor works immediately / in normal mode so there is no slip current / •Excellent absorption at surge impulses</pre><br> / <b>Applications:</b> / <pre> / •12–48 VDC distribution / •110–400 V power supply / •Leakage of voltage peaks / •Surge protection in accordance with EN 61000-4-5 / </pre>
MANUFACTURER: Würth Elektronik eiSos GmbH; CREATED-BY: Christin Zierenner; COMPANY-URL: http://www.we-online.de; CREATED-DATE: May 2012; DATASHEET-URL: http://katalog.we-online.de/kataloge/eisos/index.php?language=en&pf=WE-VD
footprint WE-VD_14MM-DIA
pins: 1, 2

## WE-VD_14MM,820541311
designator D?, comment <b>Characteristics:</b> / <pre>•Low clamping voltage / •After a surge impulse the varistor works immediately / in normal mode so there is no slip current / •Excellent absorption at surge impulses</pre><br> / <b>Applications:</b> / <pre> / •12–48 VDC distribution / •110–400 V power supply / •Leakage of voltage peaks / •Surge protection in accordance with EN 61000-4-5 / </pre>
MANUFACTURER: Würth Elektronik eiSos GmbH; CREATED-BY: Christin Zierenner; COMPANY-URL: http://www.we-online.de; CREATED-DATE: May 2012; DATASHEET-URL: http://katalog.we-online.de/kataloge/eisos/media/pdf/820541311.pdf
footprint WE-VD_14MM-DIA
pins: 1, 2

## WE-VD_14MM,820541406
designator D?, comment <b>Characteristics:</b> / <pre>•Low clamping voltage / •After a surge impulse the varistor works immediately / in normal mode so there is no slip current / •Excellent absorption at surge impulses</pre><br> / <b>Applications:</b> / <pre> / •12–48 VDC distribution / •110–400 V power supply / •Leakage of voltage peaks / •Surge protection in accordance with EN 61000-4-5 / </pre>
MANUFACTURER: Würth Elektronik eiSos GmbH; CREATED-BY: Christin Zierenner; COMPANY-URL: http://www.we-online.de; CREATED-DATE: May 2012; DATASHEET-URL: http://katalog.we-online.de/kataloge/eisos/media/pdf/820541406.pdf
footprint WE-VD_14MM-DIA
pins: 1, 2

## WE-VD_14MM,820541411
designator D?, comment <b>Characteristics:</b> / <pre>•Low clamping voltage / •After a surge impulse the varistor works immediately / in normal mode so there is no slip current / •Excellent absorption at surge impulses</pre><br> / <b>Applications:</b> / <pre> / •12–48 VDC distribution / •110–400 V power supply / •Leakage of voltage peaks / •Surge protection in accordance with EN 61000-4-5 / </pre>
MANUFACTURER: Würth Elektronik eiSos GmbH; CREATED-BY: Christin Zierenner; COMPANY-URL: http://www.we-online.de; CREATED-DATE: May 2012; DATASHEET-URL: http://katalog.we-online.de/kataloge/eisos/index.php?language=en&pf=WE-VD
footprint WE-VD_14MM-DIA
pins: 1, 2

## WE-VD_14MM,820541511
designator D?, comment <b>Characteristics:</b> / <pre>•Low clamping voltage / •After a surge impulse the varistor works immediately / in normal mode so there is no slip current / •Excellent absorption at surge impulses</pre><br> / <b>Applications:</b> / <pre> / •12–48 VDC distribution / •110–400 V power supply / •Leakage of voltage peaks / •Surge protection in accordance with EN 61000-4-5 / </pre>
MANUFACTURER: Würth Elektronik eiSos GmbH; CREATED-BY: Christin Zierenner; COMPANY-URL: http://www.we-online.de; CREATED-DATE: May 2012; DATASHEET-URL: http://katalog.we-online.de/kataloge/eisos/index.php?language=en&pf=WE-VD
footprint WE-VD_14MM-DIA
pins: 1, 2

## WE-VD_14MM,820541701
designator D?, comment <b>Characteristics:</b> / <pre>•Low clamping voltage / •After a surge impulse the varistor works immediately / in normal mode so there is no slip current / •Excellent absorption at surge impulses</pre><br> / <b>Applications:</b> / <pre> / •12–48 VDC distribution / •110–400 V power supply / •Leakage of voltage peaks / •Surge protection in accordance with EN 61000-4-5 / </pre>
MANUFACTURER: Würth Elektronik eiSos GmbH; CREATED-BY: Christin Zierenner; COMPANY-URL: http://www.we-online.de; CREATED-DATE: May 2012; DATASHEET-URL: http://katalog.we-online.de/kataloge/eisos/index.php?language=en&pf=WE-VD
footprint WE-VD_14MM-DIA
pins: 1, 2

## WE-VD_14MM,820541711
designator D?, comment <b>Characteristics:</b> / <pre>•Low clamping voltage / •After a surge impulse the varistor works immediately / in normal mode so there is no slip current / •Excellent absorption at surge impulses</pre><br> / <b>Applications:</b> / <pre> / •12–48 VDC distribution / •110–400 V power supply / •Leakage of voltage peaks / •Surge protection in accordance with EN 61000-4-5 / </pre>
MANUFACTURER: Würth Elektronik eiSos GmbH; CREATED-BY: Christin Zierenner; COMPANY-URL: http://www.we-online.de; CREATED-DATE: May 2012; DATASHEET-URL: http://katalog.we-online.de/kataloge/eisos/index.php?language=en&pf=WE-VD
footprint WE-VD_14MM-DIA
pins: 1, 2

## WE-VD_14MM,820541911
designator D?, comment <b>Characteristics:</b> / <pre>•Low clamping voltage / •After a surge impulse the varistor works immediately / in normal mode so there is no slip current / •Excellent absorption at surge impulses</pre><br> / <b>Applications:</b> / <pre> / •12–48 VDC distribution / •110–400 V power supply / •Leakage of voltage peaks / •Surge protection in accordance with EN 61000-4-5 / </pre>
MANUFACTURER: Würth Elektronik eiSos GmbH; CREATED-BY: Christin Zierenner; COMPANY-URL: http://www.we-online.de; CREATED-DATE: May 2012; DATASHEET-URL: http://katalog.we-online.de/kataloge/eisos/index.php?language=en&pf=WE-VD
footprint WE-VD_14MM-DIA
pins: 1, 2

## WE-VD_14MM,820542001
designator D?, comment <b>Characteristics:</b> / <pre>•Low clamping voltage / •After a surge impulse the varistor works immediately / in normal mode so there is no slip current / •Excellent absorption at surge impulses</pre><br> / <b>Applications:</b> / <pre> / •12–48 VDC distribution / •110–400 V power supply / •Leakage of voltage peaks / •Surge protection in accordance with EN 61000-4-5 / </pre>
MANUFACTURER: Würth Elektronik eiSos GmbH; CREATED-BY: Christin Zierenner; COMPANY-URL: http://www.we-online.de; CREATED-DATE: May 2012; DATASHEET-URL: http://katalog.we-online.de/kataloge/eisos/index.php?language=en&pf=WE-VD
footprint WE-VD_14MM-DIA
pins: 1, 2

## WE-VD_14MM,820542111
designator D?, comment <b>Characteristics:</b> / <pre>•Low clamping voltage / •After a surge impulse the varistor works immediately / in normal mode so there is no slip current / •Excellent absorption at surge impulses</pre><br> / <b>Applications:</b> / <pre> / •12–48 VDC distribution / •110–400 V power supply / •Leakage of voltage peaks / •Surge protection in accordance with EN 61000-4-5 / </pre>
MANUFACTURER: Würth Elektronik eiSos GmbH; CREATED-BY: Christin Zierenner; COMPANY-URL: http://www.we-online.de; CREATED-DATE: May 2012; DATASHEET-URL: http://katalog.we-online.de/kataloge/eisos/index.php?language=en&pf=WE-VD
footprint WE-VD_14MM-DIA
pins: 1, 2

## WE-VD_14MM,820542311
designator D?, comment <b>Characteristics:</b> / <pre>•Low clamping voltage / •After a surge impulse the varistor works immediately / in normal mode so there is no slip current / •Excellent absorption at surge impulses</pre><br> / <b>Applications:</b> / <pre> / •12–48 VDC distribution / •110–400 V power supply / •Leakage of voltage peaks / •Surge protection in accordance with EN 61000-4-5 / </pre>
MANUFACTURER: Würth Elektronik eiSos GmbH; CREATED-BY: Christin Zierenner; COMPANY-URL: http://www.we-online.de; CREATED-DATE: May 2012; DATASHEET-URL: http://katalog.we-online.de/kataloge/eisos/index.php?language=en&pf=WE-VD
footprint WE-VD_14MM-0.9
pins: 1, 2

## WE-VD_14MM,820542501
designator D?, comment <b>Characteristics:</b> / <pre>•Low clamping voltage / •After a surge impulse the varistor works immediately / in normal mode so there is no slip current / •Excellent absorption at surge impulses</pre><br> / <b>Applications:</b> / <pre> / •12–48 VDC distribution / •110–400 V power supply / •Leakage of voltage peaks / •Surge protection in accordance with EN 61000-4-5 / </pre>
MANUFACTURER: Würth Elektronik eiSos GmbH; CREATED-BY: Christin Zierenner; COMPANY-URL: http://www.we-online.de; CREATED-DATE: May 2012; DATASHEET-URL: http://katalog.we-online.de/kataloge/eisos/media/pdf/820542501.pdf
footprint WE-VD_14MM-DIA
pins: 1, 2